# Altium integrated library TI Data Converters Digital to Analog Converter.IntLib: 1533 symbols (part 15 of 99)
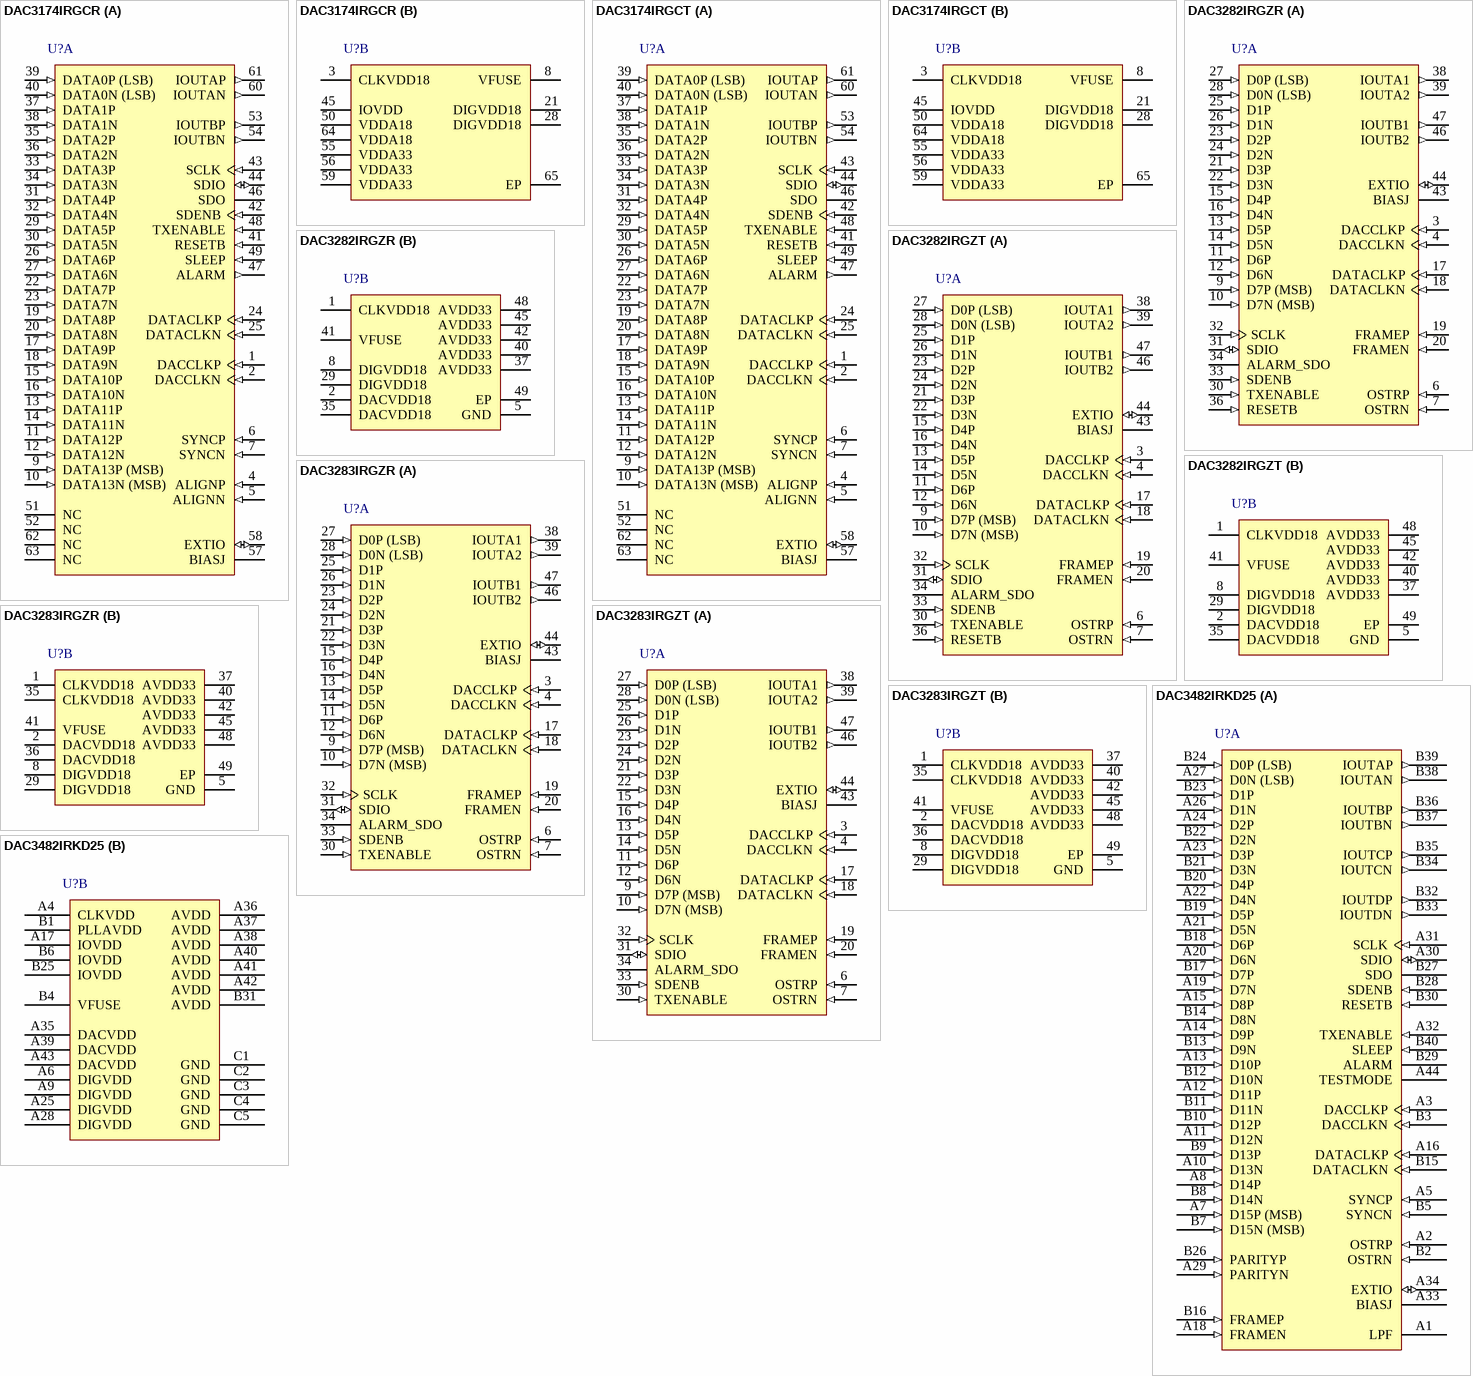
[diagram p87: symbols DAC3174IRGCR to DAC3482IRKD25]

## DAC3174IRGCR
designator U?
Dual 14-Bit 500 MSPS Digital to Analog Converter, -40 to 85 degC, 64-pin QFN (RGC64), Green (RoHS & no Sb/Br); Manufacturer: Texas Instruments; PartNumber: DAC3174IRGCR; DAC Channels: 2; Packing: LARGE T&R; Power Consumption(Typ)(mW): 464; Resolution(Bits): 14; Settling Time(us): 0.011; SFDR(dB): 82; SubFamily: High Speed DAC (>10MSPS); DatasheetVersion: SLAS837A; PackageVersion: 4204106/F, 11/2011; PackageReference: RGC64-7400X7400TP; PackageDescription: 64-Pin Plastic Quad Flatpack No-Lead, Body 9 x 9 mm, Pitch 0.5 mm; Supplier 1: Newark; Supplier Part Number 1: 94W8068; Supplier 2: Mouser; Supplier Part Number 2: 595-DAC3174IRGCR; Eco-Plan: Green (RoHS & no Sb/Br); Mounting Technology: Surface Mount; ComponentLink1Description: Manufacturer URL; ComponentLink1URL: http://www.ti.com/; ComponentLink2Description: Datasheet; ComponentLink2URL: http://www.ti.com/lit/ds/symlink/dac3174.pdf; ComponentLink3Description: Package Specification; ComponentLink3URL: http://www.ti.com/litv/pdf/mpqf125e
footprint TI-RGC64-7400X7400TP_V (QFN, 64-Leads, Body 9x9mm, Pitch 0.5mm, Thermal Pad 7.4x7.4mm, TI Recommended)
part A pins: 1 DACCLKP (in) "LVPECL clock input for DAC core with a self-bias of approximately CLKVDD18/2.", 2 DACCLKN (in) "LVPECL clock input for DAC core with a self-bias of approximately CLKVDD18/2.", 4 ALIGNP (in) "LVPECL FIFO output syncrhonization. This positive/negative pair is captured with the rising edge of DACCLKP/N. It is used to reset the clock dividers and for multiple DAC synchronization. If unused it can be left unconnected.", 5 ALIGNN (in) "LVPECL FIFO output syncrhonization. This positive/negative pair is captured with the rising edge of DACCLKP/N. It is used to reset the clock dividers and for multiple DAC synchronization. If unused it can be left unconnected.", 6 SYNCP (in) "Reset the FIFO or to be used as a syncing source. These two functions are captured with the rising edge of DATACLKP/N. The signal captured by the falling edge of DATACLKP/N.", 7 SYNCN (in) "Reset the FIFO or to be used as a syncing source. These two functions are captured with the rising edge of DATACLKP/N. The signal captured by the falling edge of DATACLKP/N.", 9 DATA13P (MSB) (in) "LVDS input data bits for both channels. Each positive/negative LVDS pair has an internal 100 Ohm termination resistor. Data format relative to DATACLKP/N clock is Double Data Rate (DDR) with two data transfers per DATACKP/N (See Datasheet)", 10 DATA13N (MSB) (in) "LVDS input data bits for both channels. Each positive/negative LVDS pair has an internal 100 Ohm termination resistor. Data format relative to DATACLKP/N clock is Double Data Rate (DDR) with two data transfers per DATACKP/N (See Datasheet)", 11 DATA12P (in) "LVDS input data bits for both channels. Each positive/negative LVDS pair has an internal 100 Ohm termination resistor. Data format relative to DATACLKP/N clock is Double Data Rate (DDR) with two data transfers per DATACKP/N (See Datasheet)", 12 DATA12N (in) "LVDS input data bits for both channels. Each positive/negative LVDS pair has an internal 100 Ohm termination resistor. Data format relative to DATACLKP/N clock is Double Data Rate (DDR) with two data transfers per DATACKP/N (See Datasheet)", 13 DATA11P (in) "LVDS input data bits for both channels. Each positive/negative LVDS pair has an internal 100 Ohm termination resistor. Data format relative to DATACLKP/N clock is Double Data Rate (DDR) with two data transfers per DATACKP/N (See Datasheet)", 14 DATA11N (in) "LVDS input data bits for both channels. Each positive/negative LVDS pair has an internal 100 Ohm termination resistor. Data format relative to DATACLKP/N clock is Double Data Rate (DDR) with two data transfers per DATACKP/N (See Datasheet)", 15 DATA10P (in) "LVDS input data bits for both channels. Each positive/negative LVDS pair has an internal 100 Ohm termination resistor. Data format relative to DATACLKP/N clock is Double Data Rate (DDR) with two data transfers per DATACKP/N (See Datasheet)", 16 DATA10N (in) "LVDS input data bits for both channels. Each positive/negative LVDS pair has an internal 100 Ohm termination resistor. Data format relative to DATACLKP/N clock is Double Data Rate (DDR) with two data transfers per DATACKP/N (See Datasheet)", 17 DATA9P (in) "LVDS input data bits for both channels. Each positive/negative LVDS pair has an internal 100 Ohm termination resistor. Data format relative to DATACLKP/N clock is Double Data Rate (DDR) with two data transfers per DATACKP/N (See Datasheet)", 18 DATA9N (in) "LVDS input data bits for both channels. Each positive/negative LVDS pair has an internal 100 Ohm termination resistor. Data format relative to DATACLKP/N clock is Double Data Rate (DDR) with two data transfers per DATACKP/N (See Datasheet)", 19 DATA8P (in) "LVDS input data bits for both channels. Each positive/negative LVDS pair has an internal 100 Ohm termination resistor. Data format relative to DATACLKP/N clock is Double Data Rate (DDR) with two data transfers per DATACKP/N (See Datasheet)", 20 DATA8N (in) "LVDS input data bits for both channels. Each positive/negative LVDS pair has an internal 100 Ohm termination resistor. Data format relative to DATACLKP/N clock is Double Data Rate (DDR) with two data transfers per DATACKP/N (See Datasheet)", 22 DATA7P (in) "LVDS input data bits for both channels. Each positive/negative LVDS pair has an internal 100 Ohm termination resistor. Data format relative to DATACLKP/N clock is Double Data Rate (DDR) with two data transfers per DATACKP/N (See Datasheet)", 23 DATA7N (in) "LVDS input data bits for both channels. Each positive/negative LVDS pair has an internal 100 Ohm termination resistor. Data format relative to DATACLKP/N clock is Double Data Rate (DDR) with two data transfers per DATACKP/N (See Datasheet)", 24 DATACLKP (in) "DDR differential input data clock. Edge to center nominal timing. Ch A rising edge, Ch B falling edge in multiplexed output mode.", 25 DATACLKN (in) "DDR differential input data clock. Edge to center nominal timing. Ch A rising edge, Ch B falling edge in multiplexed output mode.", 26 DATA6P (in) "LVDS input data bits for both channels. Each positive/negative LVDS pair has an internal 100 Ohm termination resistor. Data format relative to DATACLKP/N clock is Double Data Rate (DDR) with two data transfers per DATACKP/N (See Datasheet)", 27 DATA6N (in) "LVDS input data bits for both channels. Each positive/negative LVDS pair has an internal 100 Ohm termination resistor. Data format relative to DATACLKP/N clock is Double Data Rate (DDR) with two data transfers per DATACKP/N (See Datasheet)", 29 DATA5P (in) "LVDS input data bits for both channels. Each positive/negative LVDS pair has an internal 100 Ohm termination resistor. Data format relative to DATACLKP/N clock is Double Data Rate (DDR) with two data transfers per DATACKP/N (See Datasheet)", 30 DATA5N (in) "LVDS input data bits for both channels. Each positive/negative LVDS pair has an internal 100 Ohm termination resistor. Data format relative to DATACLKP/N clock is Double Data Rate (DDR) with two data transfers per DATACKP/N (See Datasheet)", 31 DATA4P (in) "LVDS input data bits for both channels. Each positive/negative LVDS pair has an internal 100 Ohm termination resistor. Data format relative to DATACLKP/N clock is Double Data Rate (DDR) with two data transfers per DATACKP/N (See Datasheet)", 32 DATA4N (in) "LVDS input data bits for both channels. Each positive/negative LVDS pair has an internal 100 Ohm termination resistor. Data format relative to DATACLKP/N clock is Double Data Rate (DDR) with two data transfers per DATACKP/N (See Datasheet)", 33 DATA3P (in) "LVDS input data bits for both channels. Each positive/negative LVDS pair has an internal 100 Ohm termination resistor. Data format relative to DATACLKP/N clock is Double Data Rate (DDR) with two data transfers per DATACKP/N (See Datasheet)", 34 DATA3N (in) "LVDS input data bits for both channels. Each positive/negative LVDS pair has an internal 100 Ohm termination resistor. Data format relative to DATACLKP/N clock is Double Data Rate (DDR) with two data transfers per DATACKP/N (See Datasheet)", 35 DATA2P (in) "LVDS input data bits for both channels. Each positive/negative LVDS pair has an internal 100 Ohm termination resistor. Data format relative to DATACLKP/N clock is Double Data Rate (DDR) with two data transfers per DATACKP/N (See Datasheet)", 36 DATA2N (in) "LVDS input data bits for both channels. Each positive/negative LVDS pair has an internal 100 Ohm termination resistor. Data format relative to DATACLKP/N clock is Double Data Rate (DDR) with two data transfers per DATACKP/N (See Datasheet)", 37 DATA1P (in) "LVDS input data bits for both channels. Each positive/negative LVDS pair has an internal 100 Ohm termination resistor. Data format relative to DATACLKP/N clock is Double Data Rate (DDR) with two data transfers per DATACKP/N (See Datasheet)", 38 DATA1N (in) "LVDS input data bits for both channels. Each positive/negative LVDS pair has an internal 100 Ohm termination resistor. Data format relative to DATACLKP/N clock is Double Data Rate (DDR) with two data transfers per DATACKP/N (See Datasheet)", 39 DATA0P (LSB) (in) "LVDS input data bits for both channels. Each positive/negative LVDS pair has an internal 100 Ohm termination resistor. Data format relative to DATACLKP/N clock is Double Data Rate (DDR) with two data transfers per DATACKP/N (See Datasheet)", 40 DATA0N (LSB) (in) "LVDS input data bits for both channels. Each positive/negative LVDS pair has an internal 100 Ohm termination resistor. Data format relative to DATACLKP/N clock is Double Data Rate (DDR) with two data transfers per DATACKP/N (See Datasheet)", 41 RESETB (in) "Serial interface reset input. Active low. Initialized internal registers during high to low transition. Assynchronous. Internal pull-up.", 42 SDENB (in) "Serial interface clock. Internal pull-up.", 43 SCLK (in) "Serial interface clock. Internal pull-down.", 44 SDIO (io) "Bi-directional serial data in 3 pin mode (default). In 4-pin interface mode (register XYZ), the SDIO pin in an input only. Internal Pull-down.", 46 SDO (hiz) "Uni-directional serial interface data in 4 pin mode (register XYZ). The SDO pin is tri-stated in 3-pin interface mode (default). Internal Pulldown.", 47 ALARM (out) "CMOS output for ALARM condition.", 48 TXENABLE (in) "Transmit enable active high input. TXENABLE must be high for the DATA to the DAC to be enabled. When TXENABLE is low, the digital logic section is forced to all 0, and any input data is ignored. Internal pull-down.", 49 SLEEP (in) "Puts device in sleep, active high. Internal pull-down.", 51 NC "Not used. These pins can be left open or tied to GROUND in actual application use.", 52 NC "Not used. These pins can be left open or tied to GROUND in actual application use.", 53 IOUTBP (out) "B-Channel DAC current output. An offset binary data pattern of 0x0000 at the DAC input results in a full scale current source and the most positive voltage on the IOUTBP pin. Similarly, a 0xFFFF data input results in a 0 mA (See Datasheet)", 54 IOUTBN (out) "B-Channel DAC current output. An offset binary data pattern of 0x0000 at the DAC input results in a full scale current source and the most positive voltage on the IOUTBP pin. Similarly, a 0xFFFF data input results in a 0 mA (See Datasheet)", 57 BIASJ "Full-scale output current bias. For 20 mA full-scale output current, connect a 960 Ohm resistor to GND.", 58 EXTIO (io) "Used as external reference input when internal reference is disabled. Requires a 0.1 uF decoupling capacitor to GND when used as reference output.", 60 IOUTAN (out) "A-Channel DAC current output. An offset binary data pattern of 0x0000 at the DAC input results in a full scale current source and the most positive voltage on the IOUTAP pin. Similarly, a 0xFFFF data input results in a 0 mA (See Datasheet)", 61 IOUTAP (out) "A-Channel DAC current output. An offset binary data pattern of 0x0000 at the DAC input results in a full scale current source and the most positive voltage on the IOUTAP pin. Similarly, a 0xFFFF data input results in a 0 mA (See Datasheet)", 62 NC "Not used. These pins can be left open or tied to GROUND in actual application use.", 63 NC "Not used. These pins can be left open or tied to GROUND in actual application use."
part B pins: 3 CLKVDD18 (power) "1.8V clock supply", 8 VFUSE (power) "Digital supply voltage. (1.8V) This supply pin is also used for factory fuse programming. Connect to DVDD pins for normal operation.", 21 DIGVDD18 (power) "1.8V digital supply. Also supplies LVDS receivers.", 28 DIGVDD18 (power) "1.8V digital supply. Also supplies LVDS receivers.", 45 IOVDD (power) "Supply voltage for CMOS IO’s. 1.8V - 3.3V.", 50 VDDA18 (power) "Analog 1.8V supply", 55 VDDA33 (power) "Analog 3.3V supply", 56 VDDA33 (power) "Analog 3.3V supply", 59 VDDA33 (power) "Analog 3.3V supply", 64 VDDA18 (power) "Analog 1.8V supply", 65 EP (power)

## DAC3174IRGCT
designator U?
Dual 14-Bit 500 MSPS Digital to Analog Converter, -40 to 85 degC, 64-pin QFN (RGC64), Green (RoHS & no Sb/Br); Manufacturer: Texas Instruments; PartNumber: DAC3174IRGCT; DAC Channels: 2; Packing: SMALL T&R; Power Consumption(Typ)(mW): 464; Resolution(Bits): 14; Settling Time(us): 0.011; SFDR(dB): 82; SubFamily: High Speed DAC (>10MSPS); DatasheetVersion: SLAS837A; PackageVersion: 4204106/F, 11/2011; PackageReference: RGC64-7400X7400TP; PackageDescription: 64-Pin Plastic Quad Flatpack No-Lead, Body 9 x 9 mm, Pitch 0.5 mm; Supplier 1: Digi-Key; Supplier Part Number 1: 296-36175-2-ND; Supplier 2: Digi-Key; Supplier Part Number 2: 296-36175-1-ND; Supplier 3: Digi-Key; Supplier Part Number 3: 296-36175-6-ND; Supplier 4: Newark; Supplier Part Number 4: 94W8069; Supplier 5: Mouser; Supplier Part Number 5: 595-DAC3174IRGCT; Eco-Plan: Green (RoHS & no Sb/Br); Mounting Technology: Surface Mount; ComponentLink1Description: Manufacturer URL; ComponentLink1URL: http://www.ti.com/; ComponentLink2Description: Datasheet; ComponentLink2URL: http://www.ti.com/lit/ds/symlink/dac3174.pdf; ComponentLink3Description: Package Specification; ComponentLink3URL: http://www.ti.com/litv/pdf/mpqf125e
footprint TI-RGC64-7400X7400TP_V (QFN, 64-Leads, Body 9x9mm, Pitch 0.5mm, Thermal Pad 7.4x7.4mm, TI Recommended)
part A pins: 1 DACCLKP (in) "LVPECL clock input for DAC core with a self-bias of approximately CLKVDD18/2.", 2 DACCLKN (in) "LVPECL clock input for DAC core with a self-bias of approximately CLKVDD18/2.", 4 ALIGNP (in) "LVPECL FIFO output syncrhonization. This positive/negative pair is captured with the rising edge of DACCLKP/N. It is used to reset the clock dividers and for multiple DAC synchronization. If unused it can be left unconnected.", 5 ALIGNN (in) "LVPECL FIFO output syncrhonization. This positive/negative pair is captured with the rising edge of DACCLKP/N. It is used to reset the clock dividers and for multiple DAC synchronization. If unused it can be left unconnected.", 6 SYNCP (in) "Reset the FIFO or to be used as a syncing source. These two functions are captured with the rising edge of DATACLKP/N. The signal captured by the falling edge of DATACLKP/N.", 7 SYNCN (in) "Reset the FIFO or to be used as a syncing source. These two functions are captured with the rising edge of DATACLKP/N. The signal captured by the falling edge of DATACLKP/N.", 9 DATA13P (MSB) (in) "LVDS input data bits for both channels. Each positive/negative LVDS pair has an internal 100 Ohm termination resistor. Data format relative to DATACLKP/N clock is Double Data Rate (DDR) with two data transfers per DATACKP/N (See Datasheet)", 10 DATA13N (MSB) (in) "LVDS input data bits for both channels. Each positive/negative LVDS pair has an internal 100 Ohm termination resistor. Data format relative to DATACLKP/N clock is Double Data Rate (DDR) with two data transfers per DATACKP/N (See Datasheet)", 11 DATA12P (in) "LVDS input data bits for both channels. Each positive/negative LVDS pair has an internal 100 Ohm termination resistor. Data format relative to DATACLKP/N clock is Double Data Rate (DDR) with two data transfers per DATACKP/N (See Datasheet)", 12 DATA12N (in) "LVDS input data bits for both channels. Each positive/negative LVDS pair has an internal 100 Ohm termination resistor. Data format relative to DATACLKP/N clock is Double Data Rate (DDR) with two data transfers per DATACKP/N (See Datasheet)", 13 DATA11P (in) "LVDS input data bits for both channels. Each positive/negative LVDS pair has an internal 100 Ohm termination resistor. Data format relative to DATACLKP/N clock is Double Data Rate (DDR) with two data transfers per DATACKP/N (See Datasheet)", 14 DATA11N (in) "LVDS input data bits for both channels. Each positive/negative LVDS pair has an internal 100 Ohm termination resistor. Data format relative to DATACLKP/N clock is Double Data Rate (DDR) with two data transfers per DATACKP/N (See Datasheet)", 15 DATA10P (in) "LVDS input data bits for both channels. Each positive/negative LVDS pair has an internal 100 Ohm termination resistor. Data format relative to DATACLKP/N clock is Double Data Rate (DDR) with two data transfers per DATACKP/N (See Datasheet)", 16 DATA10N (in) "LVDS input data bits for both channels. Each positive/negative LVDS pair has an internal 100 Ohm termination resistor. Data format relative to DATACLKP/N clock is Double Data Rate (DDR) with two data transfers per DATACKP/N (See Datasheet)", 17 DATA9P (in) "LVDS input data bits for both channels. Each positive/negative LVDS pair has an internal 100 Ohm termination resistor. Data format relative to DATACLKP/N clock is Double Data Rate (DDR) with two data transfers per DATACKP/N (See Datasheet)", 18 DATA9N (in) "LVDS input data bits for both channels. Each positive/negative LVDS pair has an internal 100 Ohm termination resistor. Data format relative to DATACLKP/N clock is Double Data Rate (DDR) with two data transfers per DATACKP/N (See Datasheet)", 19 DATA8P (in) "LVDS input data bits for both channels. Each positive/negative LVDS pair has an internal 100 Ohm termination resistor. Data format relative to DATACLKP/N clock is Double Data Rate (DDR) with two data transfers per DATACKP/N (See Datasheet)", 20 DATA8N (in) "LVDS input data bits for both channels. Each positive/negative LVDS pair has an internal 100 Ohm termination resistor. Data format relative to DATACLKP/N clock is Double Data Rate (DDR) with two data transfers per DATACKP/N (See Datasheet)", 22 DATA7P (in) "LVDS input data bits for both channels. Each positive/negative LVDS pair has an internal 100 Ohm termination resistor. Data format relative to DATACLKP/N clock is Double Data Rate (DDR) with two data transfers per DATACKP/N (See Datasheet)", 23 DATA7N (in) "LVDS input data bits for both channels. Each positive/negative LVDS pair has an internal 100 Ohm termination resistor. Data format relative to DATACLKP/N clock is Double Data Rate (DDR) with two data transfers per DATACKP/N (See Datasheet)", 24 DATACLKP (in) "DDR differential input data clock. Edge to center nominal timing. Ch A rising edge, Ch B falling edge in multiplexed output mode.", 25 DATACLKN (in) "DDR differential input data clock. Edge to center nominal timing. Ch A rising edge, Ch B falling edge in multiplexed output mode.", 26 DATA6P (in) "LVDS input data bits for both channels. Each positive/negative LVDS pair has an internal 100 Ohm termination resistor. Data format relative to DATACLKP/N clock is Double Data Rate (DDR) with two data transfers per DATACKP/N (See Datasheet)", 27 DATA6N (in) "LVDS input data bits for both channels. Each positive/negative LVDS pair has an internal 100 Ohm termination resistor. Data format relative to DATACLKP/N clock is Double Data Rate (DDR) with two data transfers per DATACKP/N (See Datasheet)", 29 DATA5P (in) "LVDS input data bits for both channels. Each positive/negative LVDS pair has an internal 100 Ohm termination resistor. Data format relative to DATACLKP/N clock is Double Data Rate (DDR) with two data transfers per DATACKP/N (See Datasheet)", 30 DATA5N (in) "LVDS input data bits for both channels. Each positive/negative LVDS pair has an internal 100 Ohm termination resistor. Data format relative to DATACLKP/N clock is Double Data Rate (DDR) with two data transfers per DATACKP/N (See Datasheet)", 31 DATA4P (in) "LVDS input data bits for both channels. Each positive/negative LVDS pair has an internal 100 Ohm termination resistor. Data format relative to DATACLKP/N clock is Double Data Rate (DDR) with two data transfers per DATACKP/N (See Datasheet)", 32 DATA4N (in) "LVDS input data bits for both channels. Each positive/negative LVDS pair has an internal 100 Ohm termination resistor. Data format relative to DATACLKP/N clock is Double Data Rate (DDR) with two data transfers per DATACKP/N (See Datasheet)", 33 DATA3P (in) "LVDS input data bits for both channels. Each positive/negative LVDS pair has an internal 100 Ohm termination resistor. Data format relative to DATACLKP/N clock is Double Data Rate (DDR) with two data transfers per DATACKP/N (See Datasheet)", 34 DATA3N (in) "LVDS input data bits for both channels. Each positive/negative LVDS pair has an internal 100 Ohm termination resistor. Data format relative to DATACLKP/N clock is Double Data Rate (DDR) with two data transfers per DATACKP/N (See Datasheet)", 35 DATA2P (in) "LVDS input data bits for both channels. Each positive/negative LVDS pair has an internal 100 Ohm termination resistor. Data format relative to DATACLKP/N clock is Double Data Rate (DDR) with two data transfers per DATACKP/N (See Datasheet)", 36 DATA2N (in) "LVDS input data bits for both channels. Each positive/negative LVDS pair has an internal 100 Ohm termination resistor. Data format relative to DATACLKP/N clock is Double Data Rate (DDR) with two data transfers per DATACKP/N (See Datasheet)", 37 DATA1P (in) "LVDS input data bits for both channels. Each positive/negative LVDS pair has an internal 100 Ohm termination resistor. Data format relative to DATACLKP/N clock is Double Data Rate (DDR) with two data transfers per DATACKP/N (See Datasheet)", 38 DATA1N (in) "LVDS input data bits for both channels. Each positive/negative LVDS pair has an internal 100 Ohm termination resistor. Data format relative to DATACLKP/N clock is Double Data Rate (DDR) with two data transfers per DATACKP/N (See Datasheet)", 39 DATA0P (LSB) (in) "LVDS input data bits for both channels. Each positive/negative LVDS pair has an internal 100 Ohm termination resistor. Data format relative to DATACLKP/N clock is Double Data Rate (DDR) with two data transfers per DATACKP/N (See Datasheet)", 40 DATA0N (LSB) (in) "LVDS input data bits for both channels. Each positive/negative LVDS pair has an internal 100 Ohm termination resistor. Data format relative to DATACLKP/N clock is Double Data Rate (DDR) with two data transfers per DATACKP/N (See Datasheet)", 41 RESETB (in) "Serial interface reset input. Active low. Initialized internal registers during high to low transition. Assynchronous. Internal pull-up.", 42 SDENB (in) "Serial interface clock. Internal pull-up.", 43 SCLK (in) "Serial interface clock. Internal pull-down.", 44 SDIO (io) "Bi-directional serial data in 3 pin mode (default). In 4-pin interface mode (register XYZ), the SDIO pin in an input only. Internal Pull-down.", 46 SDO (hiz) "Uni-directional serial interface data in 4 pin mode (register XYZ). The SDO pin is tri-stated in 3-pin interface mode (default). Internal Pulldown.", 47 ALARM (out) "CMOS output for ALARM condition.", 48 TXENABLE (in) "Transmit enable active high input. TXENABLE must be high for the DATA to the DAC to be enabled. When TXENABLE is low, the digital logic section is forced to all 0, and any input data is ignored. Internal pull-down.", 49 SLEEP (in) "Puts device in sleep, active high. Internal pull-down.", 51 NC "Not used. These pins can be left open or tied to GROUND in actual application use.", 52 NC "Not used. These pins can be left open or tied to GROUND in actual application use.", 53 IOUTBP (out) "B-Channel DAC current output. An offset binary data pattern of 0x0000 at the DAC input results in a full scale current source and the most positive voltage on the IOUTBP pin. Similarly, a 0xFFFF data input results in a 0 mA (See Datasheet)", 54 IOUTBN (out) "B-Channel DAC current output. An offset binary data pattern of 0x0000 at the DAC input results in a full scale current source and the most positive voltage on the IOUTBP pin. Similarly, a 0xFFFF data input results in a 0 mA (See Datasheet)", 57 BIASJ "Full-scale output current bias. For 20 mA full-scale output current, connect a 960 Ohm resistor to GND.", 58 EXTIO (io) "Used as external reference input when internal reference is disabled. Requires a 0.1 uF decoupling capacitor to GND when used as reference output.", 60 IOUTAN (out) "A-Channel DAC current output. An offset binary data pattern of 0x0000 at the DAC input results in a full scale current source and the most positive voltage on the IOUTAP pin. Similarly, a 0xFFFF data input results in a 0 mA (See Datasheet)", 61 IOUTAP (out) "A-Channel DAC current output. An offset binary data pattern of 0x0000 at the DAC input results in a full scale current source and the most positive voltage on the IOUTAP pin. Similarly, a 0xFFFF data input results in a 0 mA (See Datasheet)", 62 NC "Not used. These pins can be left open or tied to GROUND in actual application use.", 63 NC "Not used. These pins can be left open or tied to GROUND in actual application use."
part B pins: 3 CLKVDD18 (power) "1.8V clock supply", 8 VFUSE (power) "Digital supply voltage. (1.8V) This supply pin is also used for factory fuse programming. Connect to DVDD pins for normal operation.", 21 DIGVDD18 (power) "1.8V digital supply. Also supplies LVDS receivers.", 28 DIGVDD18 (power) "1.8V digital supply. Also supplies LVDS receivers.", 45 IOVDD (power) "Supply voltage for CMOS IO’s. 1.8V - 3.3V.", 50 VDDA18 (power) "Analog 1.8V supply", 55 VDDA33 (power) "Analog 3.3V supply", 56 VDDA33 (power) "Analog 3.3V supply", 59 VDDA33 (power) "Analog 3.3V supply", 64 VDDA18 (power) "Analog 1.8V supply", 65 EP (power)

## DAC3282IRGZR
designator U?
Dual 16-Bit 625 MSPS Communications DAC, -40 to 85 degC, 48-pin QFN (RGZ48), Green (RoHS & no Sb/Br); Manufacturer: Texas Instruments; PartNumber: DAC3282IRGZR; DAC Channels: 2; Interface: Parallel LVDS; Power Consumption(Typ)(mW): 950; Resolution(Bits): 16; Settling Time(us): 0.0104; SFDR(dB): 83; SubFamily: High Speed DAC (>10MSPS); DatasheetVersion: SLAS646B; PackageVersion: 4204101/F, 06/2011; PackageReference: RGZ48-5600X5600TP; PackageDescription: 48-Lead, Plastic Flat Pack, Body Size 7 x 7 mm, Pitch 0.5 mm; Supplier 1: Digi-Key; Supplier Part Number 1: DAC3282IRGZR-ND; Supplier 2: Newark; Supplier Part Number 2: 63R9873; Supplier 3: Mouser; Supplier Part Number 3: 595-DAC3282IRGZR; Eco-Plan: Green (RoHS & no Sb/Br); Mounting Technology: Surface Mount; Code_JEDEC: MO-220; ComponentLink1Description: Manufacturer URL; ComponentLink1URL: http://www.ti.com/; ComponentLink2Description: Datasheet; ComponentLink2URL: http://www.ti.com/general/docs/lit/getliterature.tsp?genericPartNumber=DAC3282&fileType=pdf; ComponentLink3Description: Package Specification; ComponentLink3URL: http://www.ti.com/lit/ml/mpqf123e/mpqf123e.pdf
footprint TI-RGZ48-5600X5600TP_V (QFN, 48-Leads, Body 7x7mm, Pitch 0.5mm, Thermal Pad 5.6x5.6mm)
part A pins: 3 DACCLKP (in) "Positive external LVPECL clock input for DAC core with a self-bias of approximately CLKVDD18/2.", 4 DACCLKN (in) "Complementary external LVPECL clock input for DAC core. (see the DACCLKP description)", 6 OSTRP (in) "LVPECL output strobe positive input. This positive/negative pair is captured with the rising edge of DACCLKP/N. It is used to reset the clock dividers and for multiple DAC synchronization. If unused it can be left floating.", 7 OSTRN (in) "LVPECL output strobe negative input. (See the OSTRP description)", 9 D7P (MSB) (in) "LVDS positive input data bits 0 through 7. Each positive/negative LVDS pair has an internal 100 ohm termination resistor. Data format relative to DATACLKP/N clock is Double Data Rate (DDR) with two data transfers per (See Datasheet)", 10 D7N (MSB) (in) "LVDS negative input data bits 0 through 15. (See D[7:0]P description above) D7N is most significant data bit (MSB) - pin 10 D0N is least significant data bit (LSB) - pin 28", 11 D6P (in) "LVDS positive input data bits 0 through 7. Each positive/negative LVDS pair has an internal 100 ohm termination resistor. Data format relative to DATACLKP/N clock is Double Data Rate (DDR) with two data transfers per (See Datasheet)", 12 D6N (in) "LVDS negative input data bits 0 through 15. (See D[7:0]P description above) D7N is most significant data bit (MSB) - pin 10 D0N is least significant data bit (LSB) - pin 28", 13 D5P (in) "LVDS positive input data bits 0 through 7. Each positive/negative LVDS pair has an internal 100 ohm termination resistor. Data format relative to DATACLKP/N clock is Double Data Rate (DDR) with two data transfers per (See Datasheet)", 14 D5N (in) "LVDS negative input data bits 0 through 15. (See D[7:0]P description above) D7N is most significant data bit (MSB) - pin 10 D0N is least significant data bit (LSB) - pin 28", 15 D4P (in) "LVDS positive input data bits 0 through 7. Each positive/negative LVDS pair has an internal 100 ohm termination resistor. Data format relative to DATACLKP/N clock is Double Data Rate (DDR) with two data transfers per (See Datasheet)", 16 D4N (in) "LVDS negative input data bits 0 through 15. (See D[7:0]P description above) D7N is most significant data bit (MSB) - pin 10 D0N is least significant data bit (LSB) - pin 28", 17 DATACLKP (in) "LVDS positive input data clock. This positive/negative pair has an internal 100 ohm termination resistor. Input data D[7:0]P/N is latched on both edges of DATACLKP/N (Double Data Rate) with two data transfers input per (See Datasheet)", 18 DATACLKN (in) "LVDS negative input data clock. (See DATACLKP description)", 19 FRAMEP (in) "LVDS frame indicator positive input. This positive/negative pair has an internal 100 ohm termination resistor. This signal is captured with the rising edge of DATACLKP/N and used to indicate the beginning of the frame. It is (See Datasheet)", 20 FRAMEN (in) "LVDS frame indicator negative input. (See the FRAMEN description)", 21 D3P (in) "LVDS positive input data bits 0 through 7. Each positive/negative LVDS pair has an internal 100 ohm termination resistor. Data format relative to DATACLKP/N clock is Double Data Rate (DDR) with two data transfers per (See Datasheet)", 22 D3N (in) "LVDS negative input data bits 0 through 15. (See D[7:0]P description above) D7N is most significant data bit (MSB) - pin 10 D0N is least significant data bit (LSB) - pin 28", 23 D2P (in) "LVDS positive input data bits 0 through 7. Each positive/negative LVDS pair has an internal 100 ohm termination resistor. Data format relative to DATACLKP/N clock is Double Data Rate (DDR) with two data transfers per (See Datasheet)", 24 D2N (in) "LVDS negative input data bits 0 through 15. (See D[7:0]P description above) D7N is most significant data bit (MSB) - pin 10 D0N is least significant data bit (LSB) - pin 28", 25 D1P (in) "LVDS positive input data bits 0 through 7. Each positive/negative LVDS pair has an internal 100 ohm termination resistor. Data format relative to DATACLKP/N clock is Double Data Rate (DDR) with two data transfers per (See Datasheet)", 26 D1N (in) "LVDS negative input data bits 0 through 15. (See D[7:0]P description above) D7N is most significant data bit (MSB) - pin 10 D0N is least significant data bit (LSB) - pin 28", 27 D0P (LSB) (in) "LVDS positive input data bits 0 through 7. Each positive/negative LVDS pair has an internal 100 ohm termination resistor. Data format relative to DATACLKP/N clock is Double Data Rate (DDR) with two data transfers per (See Datasheet)", 28 D0N (LSB) (in) "LVDS negative input data bits 0 through 15. (See D[7:0]P description above) D7N is most significant data bit (MSB) - pin 10 D0N is least significant data bit (LSB) - pin 28", 30 TXENABLE (in) "1.8V CMOS active high input. TXENABLE must be high for the DATA to the DAC to be enabled. When TXENABLE is low, the digital logic section is forced to all 0, and any input data is ignored. Internal pull-down.", 31 SDIO (io) "1.8V CMOS serial interface data. Bi-directional in 3-pin mode (default) and 4-pin mode. Internal pull-down.", 32 SCLK (in) "1.8V CMOS serial interface clock. Internal pull-down.", 33 SDENB (in) "1.8V CMOS active low serial data enable, always an input to the DAC3282. Internal pull-up.", 34 ALARM_SDO (hiz) "1.8V CMOS output for ALARM condition. The ALARM output functionality is defined through the CONFIG6 register. Default polarity is active low, but can be changed to active high via CONFIG0 alarm_pol control bit. Optionally, (See Datasheet)", 36 RESETB (in) "1.8V CMOS active low input for chip RESET. Internal pull-up", 38 IOUTA1 (out) "A-Channel DAC current output. An offset binary data pattern of 0x0000 at the DAC input results in a full scale current sink and the least positive voltage on the IOUTA1 pin. Similarly, a 0xFFFF data input results in a 0 mA (See Datasheet)", 39 IOUTA2 (out) "A-Channel DAC complementary current output. The IOUTA2 has the opposite behavior of the IOUTA1 described above. An input data value of 0x0000 results in a 0 mA sink and the most positive voltage on the IOUTA2 pin", 43 BIASJ "Full-scale output current bias. For 20mA full-scale output current, connect a 960 ohm resistor to GND.", 44 EXTIO (io) "Used as external reference input when internal reference is disabled through CONFIG25 extref_ena = ‘1’. Used as internal reference output when CONFIG25 extref_ena = ‘0’ (default). Requires a 0.1 uF dec(See Datasheet)", 46 IOUTB2 (out) "B-Channel DAC current output. Refer to IOUTA1 description above.", 47 IOUTB1 (out) "B-Channel DAC complementary current output. Refer to IOUTA2 description above."
part B pins: 1 CLKVDD18 (power) "Internal clock buffer supply voltage. (1.8 V) It is recommended to isolate this supply from DACVDD18 and DIGVDD18.", 2 DACVDD18 (power) "DAC core supply voltage. (1.8 V) It is recommended to isolate this supply from CLKVDD18 and DIGVDD18.", 5 GND (power) "Pin 5 and the Thermal Pad located on the bottom of the QFN package is ground for all supplies.", 8 DIGVDD18 (power) "Digital supply voltage. (1.8V) It is recommended to isolate this supply from CLKVDD18 and DACVDD18", 29 DIGVDD18 (power) "Digital supply voltage. (1.8V) It is recommended to isolate this supply from CLKVDD18 and DACVDD18", 35 DACVDD18 (power) "DAC core supply voltage. (1.8 V) It is recommended to isolate this supply from CLKVDD18 and DIGVDD18.", 37 AVDD33 (power) "Analog supply voltage. (3.3 V)", 40 AVDD33 (power) "Analog supply voltage. (3.3 V)", 41 VFUSE (power) "Digital supply voltage. (1.8V) This supply pin is also used for factory fuse programming. Connect to DACVDD18 pins for normal operation.", 42 AVDD33 (power) "Analog supply voltage. (3.3 V)", 45 AVDD33 (power) "Analog supply voltage. (3.3 V)", 48 AVDD33 (power) "Analog supply voltage. (3.3 V)", 49 EP (power) "Pin 5 and the Thermal Pad located on the bottom of the QFN package is ground for all supplies."

## DAC3282IRGZT
designator U?
Dual 16-Bit 625 MSPS Communications DAC, -40 to 85 degC, 48-pin QFN (RGZ48), Green (RoHS & no Sb/Br); Manufacturer: Texas Instruments; PartNumber: DAC3282IRGZT; DAC Channels: 2; Interface: Parallel LVDS; Power Consumption(Typ)(mW): 950; Resolution(Bits): 16; Settling Time(us): 0.0104; SFDR(dB): 83; SubFamily: High Speed DAC (>10MSPS); DatasheetVersion: SLAS646B; PackageVersion: 4204101/F, 06/2011; PackageReference: RGZ48-5600X5600TP; PackageDescription: 48-Lead, Plastic Flat Pack, Body Size 7 x 7 mm, Pitch 0.5 mm; Supplier 1: Digi-Key; Supplier Part Number 1: 296-25612-2-ND; Supplier 2: Digi-Key; Supplier Part Number 2: 296-25612-1-ND; Supplier 3: Digi-Key; Supplier Part Number 3: 296-25612-6-ND; Supplier 4: Newark; Supplier Part Number 4: 63R9874; Supplier 5: Mouser; Supplier Part Number 5: 595-DAC3282IRGZT; Eco-Plan: Green (RoHS & no Sb/Br); Mounting Technology: Surface Mount; Code_JEDEC: MO-220; ComponentLink1Description: Manufacturer URL; ComponentLink1URL: http://www.ti.com/; ComponentLink2Description: Datasheet; ComponentLink2URL: http://www.ti.com/general/docs/lit/getliterature.tsp?genericPartNumber=DAC3282&fileType=pdf; ComponentLink3Description: Package Specification; ComponentLink3URL: http://www.ti.com/lit/ml/mpqf123e/mpqf123e.pdf
footprint TI-RGZ48-5600X5600TP_V (QFN, 48-Leads, Body 7x7mm, Pitch 0.5mm, Thermal Pad 5.6x5.6mm)
part A pins: 3 DACCLKP (in) "Positive external LVPECL clock input for DAC core with a self-bias of approximately CLKVDD18/2.", 4 DACCLKN (in) "Complementary external LVPECL clock input for DAC core. (see the DACCLKP description)", 6 OSTRP (in) "LVPECL output strobe positive input. This positive/negative pair is captured with the rising edge of DACCLKP/N. It is used to reset the clock dividers and for multiple DAC synchronization. If unused it can be left floating.", 7 OSTRN (in) "LVPECL output strobe negative input. (See the OSTRP description)", 9 D7P (MSB) (in) "LVDS positive input data bits 0 through 7. Each positive/negative LVDS pair has an internal 100 ohm termination resistor. Data format relative to DATACLKP/N clock is Double Data Rate (DDR) with two data transfers per (See Datasheet)", 10 D7N (MSB) (in) "LVDS negative input data bits 0 through 15. (See D[7:0]P description above) D7N is most significant data bit (MSB) - pin 10 D0N is least significant data bit (LSB) - pin 28", 11 D6P (in) "LVDS positive input data bits 0 through 7. Each positive/negative LVDS pair has an internal 100 ohm termination resistor. Data format relative to DATACLKP/N clock is Double Data Rate (DDR) with two data transfers per (See Datasheet)", 12 D6N (in) "LVDS negative input data bits 0 through 15. (See D[7:0]P description above) D7N is most significant data bit (MSB) - pin 10 D0N is least significant data bit (LSB) - pin 28", 13 D5P (in) "LVDS positive input data bits 0 through 7. Each positive/negative LVDS pair has an internal 100 ohm termination resistor. Data format relative to DATACLKP/N clock is Double Data Rate (DDR) with two data transfers per (See Datasheet)", 14 D5N (in) "LVDS negative input data bits 0 through 15. (See D[7:0]P description above) D7N is most significant data bit (MSB) - pin 10 D0N is least significant data bit (LSB) - pin 28", 15 D4P (in) "LVDS positive input data bits 0 through 7. Each positive/negative LVDS pair has an internal 100 ohm termination resistor. Data format relative to DATACLKP/N clock is Double Data Rate (DDR) with two data transfers per (See Datasheet)", 16 D4N (in) "LVDS negative input data bits 0 through 15. (See D[7:0]P description above) D7N is most significant data bit (MSB) - pin 10 D0N is least significant data bit (LSB) - pin 28", 17 DATACLKP (in) "LVDS positive input data clock. This positive/negative pair has an internal 100 ohm termination resistor. Input data D[7:0]P/N is latched on both edges of DATACLKP/N (Double Data Rate) with two data transfers input per (See Datasheet)", 18 DATACLKN (in) "LVDS negative input data clock. (See DATACLKP description)", 19 FRAMEP (in) "LVDS frame indicator positive input. This positive/negative pair has an internal 100 ohm termination resistor. This signal is captured with the rising edge of DATACLKP/N and used to indicate the beginning of the frame. It is (See Datasheet)", 20 FRAMEN (in) "LVDS frame indicator negative input. (See the FRAMEN description)", 21 D3P (in) "LVDS positive input data bits 0 through 7. Each positive/negative LVDS pair has an internal 100 ohm termination resistor. Data format relative to DATACLKP/N clock is Double Data Rate (DDR) with two data transfers per (See Datasheet)", 22 D3N (in) "LVDS negative input data bits 0 through 15. (See D[7:0]P description above) D7N is most significant data bit (MSB) - pin 10 D0N is least significant data bit (LSB) - pin 28", 23 D2P (in) "LVDS positive input data bits 0 through 7. Each positive/negative LVDS pair has an internal 100 ohm termination resistor. Data format relative to DATACLKP/N clock is Double Data Rate (DDR) with two data transfers per (See Datasheet)", 24 D2N (in) "LVDS negative input data bits 0 through 15. (See D[7:0]P description above) D7N is most significant data bit (MSB) - pin 10 D0N is least significant data bit (LSB) - pin 28", 25 D1P (in) "LVDS positive input data bits 0 through 7. Each positive/negative LVDS pair has an internal 100 ohm termination resistor. Data format relative to DATACLKP/N clock is Double Data Rate (DDR) with two data transfers per (See Datasheet)", 26 D1N (in) "LVDS negative input data bits 0 through 15. (See D[7:0]P description above) D7N is most significant data bit (MSB) - pin 10 D0N is least significant data bit (LSB) - pin 28", 27 D0P (LSB) (in) "LVDS positive input data bits 0 through 7. Each positive/negative LVDS pair has an internal 100 ohm termination resistor. Data format relative to DATACLKP/N clock is Double Data Rate (DDR) with two data transfers per (See Datasheet)", 28 D0N (LSB) (in) "LVDS negative input data bits 0 through 15. (See D[7:0]P description above) D7N is most significant data bit (MSB) - pin 10 D0N is least significant data bit (LSB) - pin 28", 30 TXENABLE (in) "1.8V CMOS active high input. TXENABLE must be high for the DATA to the DAC to be enabled. When TXENABLE is low, the digital logic section is forced to all 0, and any input data is ignored. Internal pull-down.", 31 SDIO (io) "1.8V CMOS serial interface data. Bi-directional in 3-pin mode (default) and 4-pin mode. Internal pull-down.", 32 SCLK (in) "1.8V CMOS serial interface clock. Internal pull-down.", 33 SDENB (in) "1.8V CMOS active low serial data enable, always an input to the DAC3282. Internal pull-up.", 34 ALARM_SDO (hiz) "1.8V CMOS output for ALARM condition. The ALARM output functionality is defined through the CONFIG6 register. Default polarity is active low, but can be changed to active high via CONFIG0 alarm_pol control bit. Optionally, (See Datasheet)", 36 RESETB (in) "1.8V CMOS active low input for chip RESET. Internal pull-up", 38 IOUTA1 (out) "A-Channel DAC current output. An offset binary data pattern of 0x0000 at the DAC input results in a full scale current sink and the least positive voltage on the IOUTA1 pin. Similarly, a 0xFFFF data input results in a 0 mA (See Datasheet)", 39 IOUTA2 (out) "A-Channel DAC complementary current output. The IOUTA2 has the opposite behavior of the IOUTA1 described above. An input data value of 0x0000 results in a 0 mA sink and the most positive voltage on the IOUTA2 pin", 43 BIASJ "Full-scale output current bias. For 20mA full-scale output current, connect a 960 ohm resistor to GND.", 44 EXTIO (io) "Used as external reference input when internal reference is disabled through CONFIG25 extref_ena = ‘1’. Used as internal reference output when CONFIG25 extref_ena = ‘0’ (default). Requires a 0.1 uF dec(See Datasheet)", 46 IOUTB2 (out) "B-Channel DAC current output. Refer to IOUTA1 description above.", 47 IOUTB1 (out) "B-Channel DAC complementary current output. Refer to IOUTA2 description above."
part B pins: 1 CLKVDD18 (power) "Internal clock buffer supply voltage. (1.8 V) It is recommended to isolate this supply from DACVDD18 and DIGVDD18.", 2 DACVDD18 (power) "DAC core supply voltage. (1.8 V) It is recommended to isolate this supply from CLKVDD18 and DIGVDD18.", 5 GND (power) "Pin 5 and the Thermal Pad located on the bottom of the QFN package is ground for all supplies.", 8 DIGVDD18 (power) "Digital supply voltage. (1.8V) It is recommended to isolate this supply from CLKVDD18 and DACVDD18", 29 DIGVDD18 (power) "Digital supply voltage. (1.8V) It is recommended to isolate this supply from CLKVDD18 and DACVDD18", 35 DACVDD18 (power) "DAC core supply voltage. (1.8 V) It is recommended to isolate this supply from CLKVDD18 and DIGVDD18.", 37 AVDD33 (power) "Analog supply voltage. (3.3 V)", 40 AVDD33 (power) "Analog supply voltage. (3.3 V)", 41 VFUSE (power) "Digital supply voltage. (1.8V) This supply pin is also used for factory fuse programming. Connect to DACVDD18 pins for normal operation.", 42 AVDD33 (power) "Analog supply voltage. (3.3 V)", 45 AVDD33 (power) "Analog supply voltage. (3.3 V)", 48 AVDD33 (power) "Analog supply voltage. (3.3 V)", 49 EP (power) "Pin 5 and the Thermal Pad located on the bottom of the QFN package is ground for all supplies."